# EAGLE library part BQ51003 (library heck)
Highly Integrated Wireless Receiver Qi (WPC v1.1) Compliant Power Supply
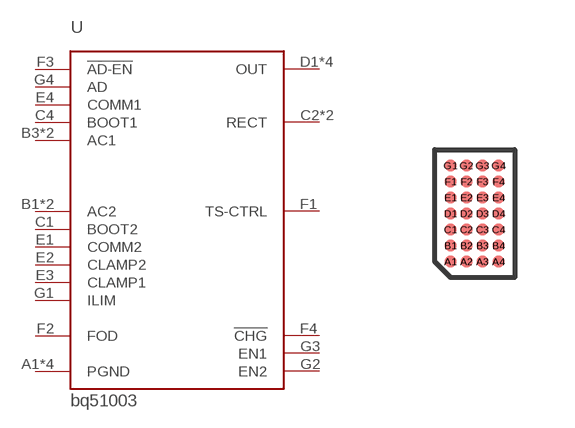
[diagram p36: symbol with the pads of DSBGA-28; footprint DSBGA-28]

Designator prefix U

## BQ51003YFP  [DSBGA-28]
A1  PGND
A2  PGND
A3  PGND
A4  PGND
B1  AC2
B2  AC2
B3  AC1
B4  AC1
C1  BOOT2
C2  RECT
C3  RECT
C4  BOOT1
D1  OUT
D2  OUT
D3  OUT
D4  OUT
E1  COMM2
E2  CLAMP2
E3  CLAMP1
E4  COMM1
F1  TS-CTRL
F2  FOD
F3  !AD-EN!
F4  !CHG!
G1  ILIM
G2  EN2
G3  EN1
G4  AD

## Footprint DSBGA-28 (pad centres in mm)
smd 0.285 x 0.285: A1 -0.6,-1.2; A2 -0.2,-1.2; A3 0.2,-1.2; A4 0.6,-1.2; B1 -0.6,-0.8; B2 -0.2,-0.8; B3 0.2,-0.8; B4 0.6,-0.8; C1 -0.6,-0.4; C2 -0.2,-0.4; C3 0.2,-0.4; C4 0.6,-0.4; D1 -0.6,0; D2 -0.2,0; D3 0.2,0; D4 0.6,0; E1 -0.6,0.4; E2 -0.2,0.4; E3 0.2,0.4; E4 0.6,0.4; F1 -0.6,0.8; F2 -0.2,0.8; F3 0.2,0.8; F4 0.6,0.8; G1 -0.6,1.2; G2 -0.2,1.2; G3 0.2,1.2; G4 0.6,1.2